# Altium schematic symbol library ESP32-38PIN.SchLib: 1 symbol
Pins are listed as number, name and electrical type; pins without a type are passive.

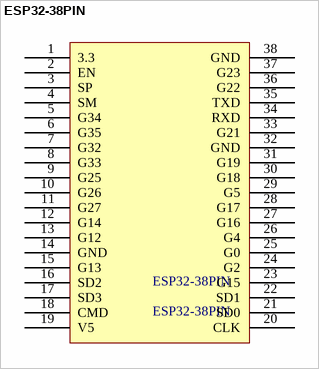
[diagram p0: symbol ESP32-38PIN]

## ESP32-38PIN
designator ESP32-38PIN
footprint ESP32-38PIN
pins: 1 3.3, 2 EN, 3 SP, 4 SM, 5 G34, 6 G35, 7 G32, 8 G33, 9 G25, 10 G26, 11 G27, 12 G14, 13 G12, 14 GND, 15 G13, 16 SD2, 17 SD3, 18 CMD, 19 V5, 20 CLK, 21 SD0, 22 SD1, 23 G15, 24 G2, 25 G0, 26 G4, 27 G16, 28 G17, 29 G5, 30 G18, 31 G19, 32 GND, 33 G21, 34 RXD, 35 TXD, 36 G22, 37 G23, 38 GND